# EAGLE library part 74HCU04 (library MyLibrary)
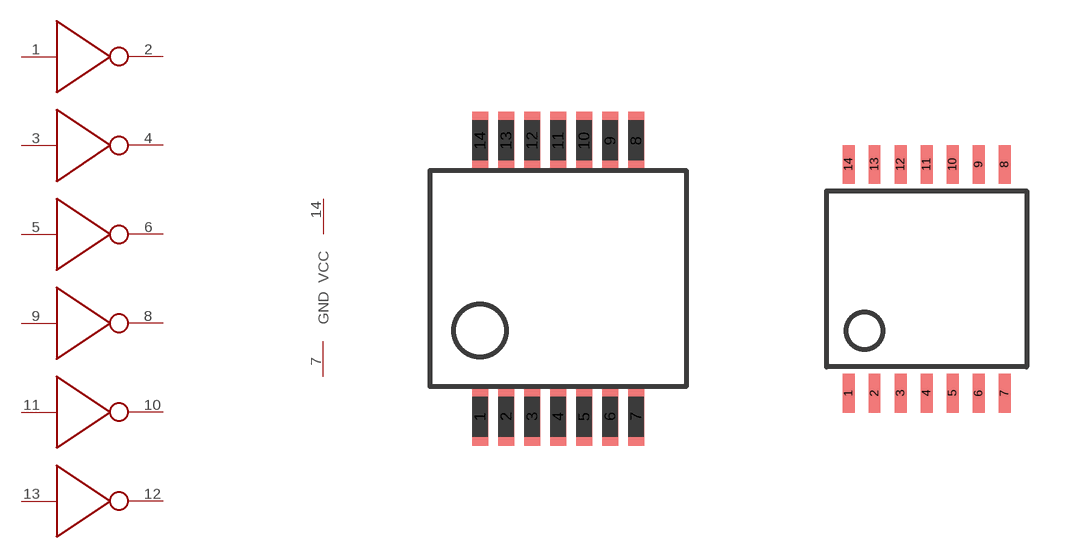
[diagram p13: symbol with the pads of SSOP-14; footprints SSOP-14, TSSOP14]

Designator prefix -; gates G$1=NOT G$2=NOT G$3=NOT G$4=NOT G$5=NOT G$6=NOT G$7=POWER

## 74HCU04DB  [SSOP-14]
1  G$1:A
2  G$1:Y
3  G$2:A
4  G$2:Y
5  G$3:A
6  G$3:Y
7  G$7:GND
8  G$4:Y
9  G$4:A
10  G$5:Y
11  G$5:A
12  G$6:Y
13  G$6:A
14  G$7:VCC

## 74HCU04PW  [TSSOP14]
Pads as for SSOP-14

## Footprint SSOP-14 (pad centres in mm)
smd 0.4 x 1.45: 1 -1.95,-3.45; 2 -1.3,-3.45; 3 -0.65,-3.45; 4 0,-3.45; 5 0.65,-3.45; 6 1.3,-3.45; 7 1.95,-3.45; 8 1.95,3.45; 9 1.3,3.45; 10 0.65,3.45; 11 0,3.45; 12 -0.65,3.45; 13 -1.3,3.45; 14 -1.95,3.45

## Footprint TSSOP14 (pad centres in mm)
smd 0.3 x 0.97: 1 -1.95,-2.86; 2 -1.3,-2.86; 3 -0.65,-2.86; 4 0,-2.86; 5 0.65,-2.86; 6 1.3,-2.86; 7 1.95,-2.86; 8 1.95,2.86; 9 1.3,2.86; 10 0.65,2.86; 11 0,2.86; 12 -0.65,2.86; 13 -1.3,2.86; 14 -1.95,2.86